# Altium footprint library XAL7030.PcbLib: 1 footprints
Each footprint in its own frame and in the unit in brackets; x right, y up, seen from the top. Pads: shape width x height; smd on the part's side, far side on the other; paste and mask are expansions set on the pad; w line width, h text height; cw(c..) or ccw(c..) is an arc to the next point about the centre after c.
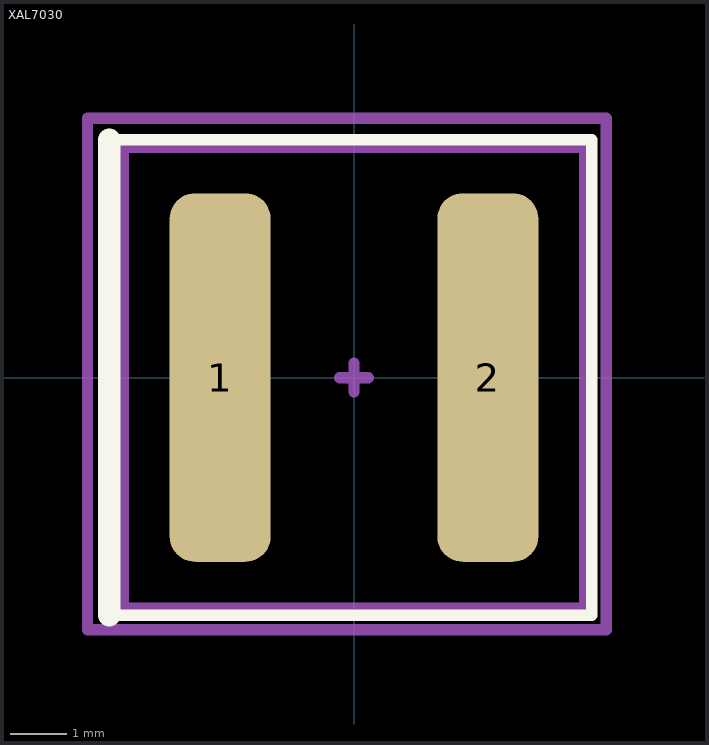
[diagram p0: the footprint, top view; thin cyan lines are the x and y axes]

## XAL7030 [mm] "Shielded Power Inductor XAL7030"
pads (2):
  rrect50% 1.78x6.5 smd mask+0.07: 1(-2.36,0) 2(2.36,0)
Top Overlay:
  lines w0.2: -4.318,-4.191 4.191,-4.191 4.191,4.191 -4.318,4.191
  lines w0.4: -4.318,-4.191 -4.318,4.191
Mechanical 2:
  lines w0.2: -0.254,0 0.254,0 ; 0,-0.254 0,0.254 ; -4.064,-4.064 4.064,-4.064 4.064,4.064 -4.064,4.064 -4.064,-4.064
Mechanical 6:
  lines w0.2: -4.699,-4.445 -4.699,4.572 4.445,4.572 4.445,-4.445 -4.699,-4.445
3D body "Coilcraft-XAL7030-332.step": height 3, standoff -0.1, extent -4,-4 4,4